# EAGLE library part AAAF5050-MC-K12 (library RGB LED)
Standard LEDs - SMD 5x5mm RGB SMD Built in IC Source: Datasheet <https://componentsearchengine.com/Datasheets/1/AAAF5050-MC-K12.pdf>
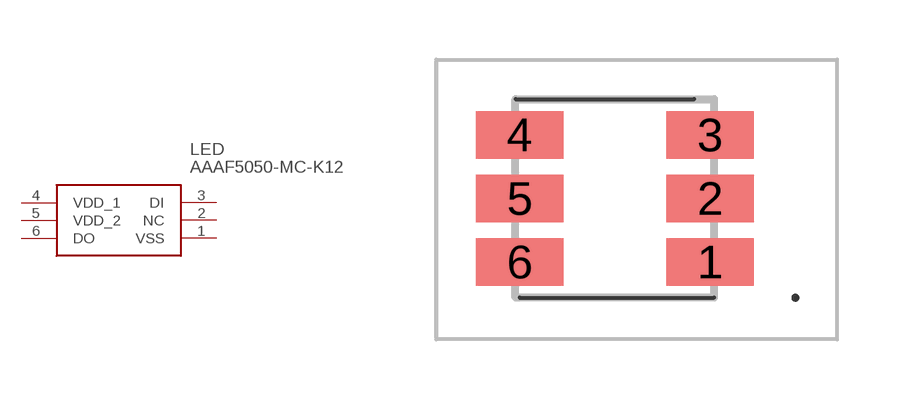
[diagram p0: symbol with the pads of AAAF5050MCK12; footprint AAAF5050MCK12]

Designator prefix LED

## AAAF5050-MC-K12 (Description: Standard LEDs - SMD 5x5mm RGB SMD Built in IC; Height: 1.8mm; Manufacturer_Name: Kingbright; Manufacturer_Part_Number: AAAF5050-MC-K12; Mouser_Part_Number: 604-AAAF5050-MC-K12; Mouser_Price-Stock: https://www.mouser.com/Search/Refine.aspx?Keyword=604-AAAF5050-MC-K12)  [AAAF5050MCK12]
1  VSS
2  NC  nc
3  DI
4  VDD_1
5  VDD_2
6  DO

## Footprint AAAF5050MCK12 (pad centres in mm)
AAAF5050-MC-K12-4
smd 2.2 x 1.2: 1 2.4,-1.6; 2 2.4,0; 3 2.4,1.6; 4 -2.4,1.6; 5 -2.4,0; 6 -2.4,-1.6